# EAGLE library part EEPROM_CAT24CXX (library ee_projects)
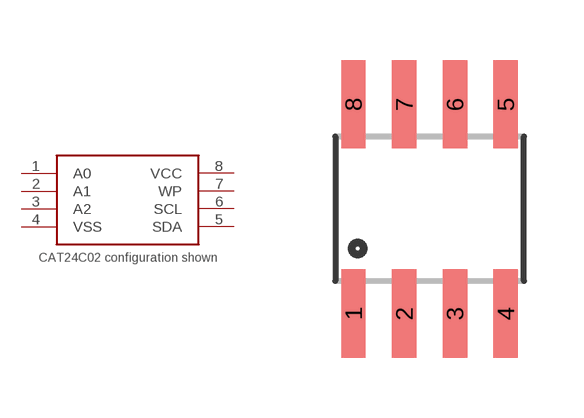
[diagram p11: symbol with the pads of SOIC8; footprint SOIC8]

Designator prefix -

## EEPROM_CAT24CXX  [SOIC8]
1  A0
2  A1
3  A2
4  VSS
5  SDA
6  SCL
7  WP
8  VCC

## Footprint SOIC8 (pad centres in mm)
smd 0.61 x 2.21: 1 -1.905,-2.616; 2 -0.635,-2.616; 3 0.635,-2.616; 4 1.905,-2.616; 5 1.905,2.616; 6 0.635,2.616; 7 -0.635,2.616; 8 -1.905,2.616